# Altium schematic symbol library SCH - MCU - RENESAS - RENESAS R7FS3A67XXXXXXNF 40QFN.SchLib: 1 symbol
Pins are listed as number, name and electrical type; pins without a type are passive.

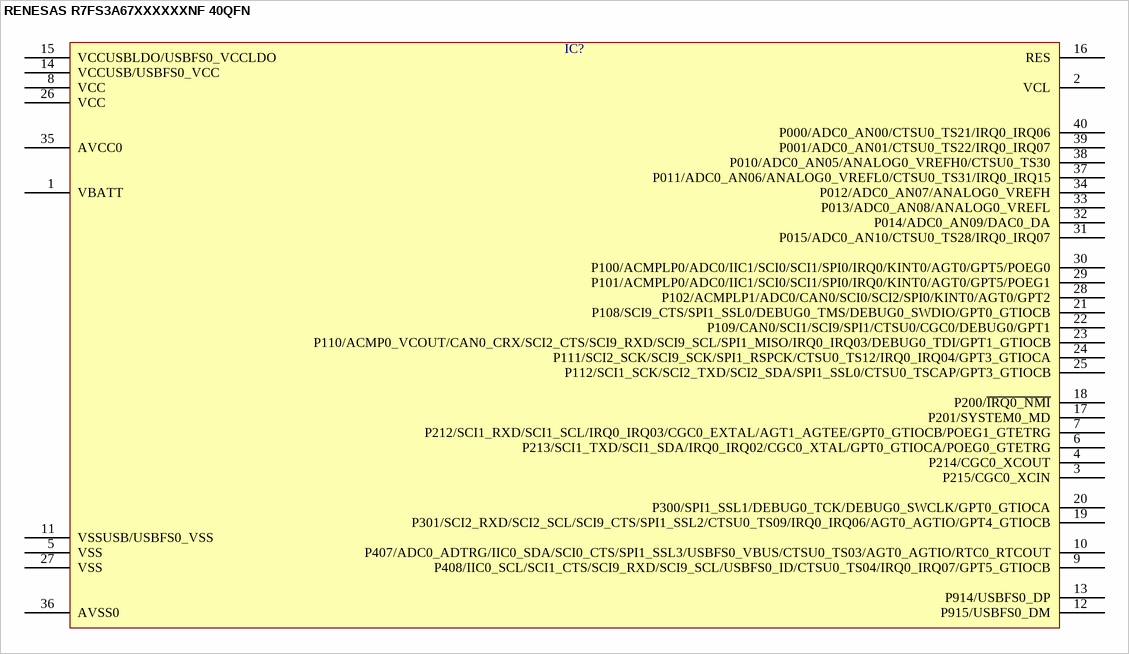
[diagram p0: symbol RENESAS R7FS3A67XXXXXXNF 40QFN]

## RENESAS R7FS3A67XXXXXXNF 40QFN
designator IC?  (value not drawn)
pins: 1 VBATT, 2 VCL, 3 P215/CGC0_XCIN, 4 P214/CGC0_XCOUT, 5 VSS, 6 P213/SCI1_TXD/SCI1_SDA/IRQ0_IRQ02/CGC0_XTAL/GPT0_GTIOCA/POEG0_GTETRG, 7 P212/SCI1_RXD/SCI1_SCL/IRQ0_IRQ03/CGC0_EXTAL/AGT1_AGTEE/GPT0_GTIOCB/POEG1_GTETRG, 8 VCC, 9 P408/IIC0_SCL/SCI1_CTS/SCI9_RXD/SCI9_SCL/USBFS0_ID/CTSU0_TS04/IRQ0_IRQ07/GPT5_GTIOCB, 10 P407/ADC0_ADTRG/IIC0_SDA/SCI0_CTS/SPI1_SSL3/USBFS0_VBUS/CTSU0_TS03/AGT0_AGTIO/RTC0_RTCOUT, 11 VSSUSB/USBFS0_VSS, 12 P915/USBFS0_DM, 13 P914/USBFS0_DP, 14 VCCUSB/USBFS0_VCC, 15 VCCUSBLDO/USBFS0_VCCLDO, 16 RES, 17 P201/SYSTEM0_MD, 18 P200/~{IRQ0_NMI}, 19 P301/SCI2_RXD/SCI2_SCL/SCI9_CTS/SPI1_SSL2/CTSU0_TS09/IRQ0_IRQ06/AGT0_AGTIO/GPT4_GTIOCB, 20 P300/SPI1_SSL1/DEBUG0_TCK/DEBUG0_SWCLK/GPT0_GTIOCA, 21 P108/SCI9_CTS/SPI1_SSL0/DEBUG0_TMS/DEBUG0_SWDIO/GPT0_GTIOCB, 22 P109/CAN0/SCI1/SCI9/SPI1/CTSU0/CGC0/DEBUG0/GPT1, 23 P110/ACMP0_VCOUT/CAN0_CRX/SCI2_CTS/SCI9_RXD/SCI9_SCL/SPI1_MISO/IRQ0_IRQ03/DEBUG0_TDI/GPT1_GTIOCB, 24 P111/SCI2_SCK/SCI9_SCK/SPI1_RSPCK/CTSU0_TS12/IRQ0_IRQ04/GPT3_GTIOCA, 25 P112/SCI1_SCK/SCI2_TXD/SCI2_SDA/SPI1_SSL0/CTSU0_TSCAP/GPT3_GTIOCB, 26 VCC, 27 VSS, 28 P102/ACMPLP1/ADC0/CAN0/SCI0/SCI2/SPI0/KINT0/AGT0/GPT2, 29 P101/ACMPLP0/ADC0/IIC1/SCI0/SCI1/SPI0/IRQ0/KINT0/AGT0/GPT5/POEG1, 30 P100/ACMPLP0/ADC0/IIC1/SCI0/SCI1/SPI0/IRQ0/KINT0/AGT0/GPT5/POEG0, 31 P015/ADC0_AN10/CTSU0_TS28/IRQ0_IRQ07, 32 P014/ADC0_AN09/DAC0_DA, 33 P013/ADC0_AN08/ANALOG0_VREFL, 34 P012/ADC0_AN07/ANALOG0_VREFH, 35 AVCC0, 36 AVSS0, 37 P011/ADC0_AN06/ANALOG0_VREFL0/CTSU0_TS31/IRQ0_IRQ15, 38 P010/ADC0_AN05/ANALOG0_VREFH0/CTSU0_TS30, 39 P001/ADC0_AN01/CTSU0_TS22/IRQ0_IRQ07, 40 P000/ADC0_AN00/CTSU0_TS21/IRQ0_IRQ06